# EAGLE library part MCU_ESP32-C3FH4 (library !GPLIB_ACTIVE)
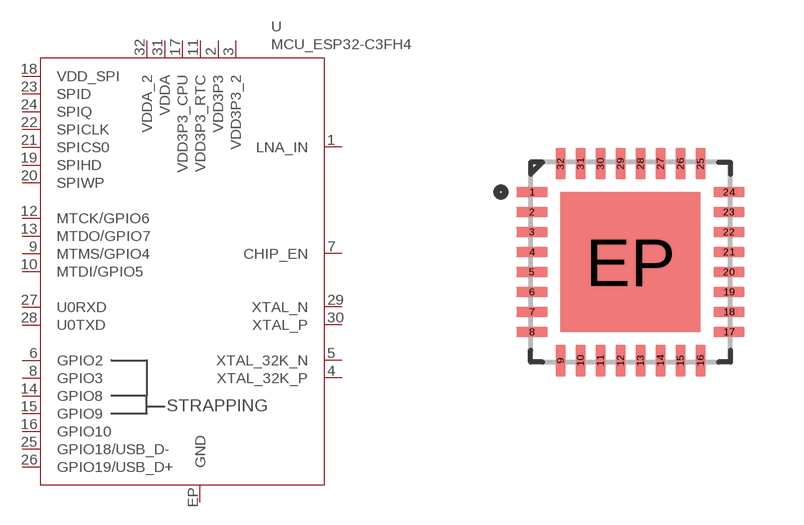
[diagram p38: symbol with the pads of QFN50P500X500X90-33N; footprint QFN50P500X500X90-33N]

Designator prefix U

## MCU_ESP32-C3FH4  [QFN50P500X500X90-33N]
1  LNA_IN
2  VDD3P3  pwr
3  VDD3P3_2  pwr
4  XTAL_32K_P
5  XTAL_32K_N
6  GPIO2
7  CHIP_EN
8  GPIO3
9  MTMS/GPIO4
10  MTDI/GPIO5
11  VDD3P3_RTC  pwr
12  MTCK/GPIO6
13  MTDO/GPIO7
14  GPIO8
15  GPIO9
16  GPIO10
17  VDD3P3_CPU  pwr
18  VDD_SPI
19  SPIHD
20  SPIWP
21  SPICS0
22  SPICLK
23  SPID
24  SPIQ
25  GPIO18/USB_D-
26  GPIO19/USB_D+
27  U0RXD
28  U0TXD
29  XTAL_N
30  XTAL_P
31  VDDA  pwr
32  VDDA_2  pwr
EP  GND  pwr

## Footprint QFN50P500X500X90-33N (pad centres in mm)
smd 0.79 x 0.26: 1 -2.465,1.75; 2 -2.465,1.25; 3 -2.465,0.75; 4 -2.465,0.25; 5 -2.465,-0.25; 6 -2.465,-0.75; 7 -2.465,-1.25; 8 -2.465,-1.75; 17 2.465,-1.75; 18 2.465,-1.25; 19 2.465,-0.75; 20 2.465,-0.25; 21 2.465,0.25; 22 2.465,0.75; 23 2.465,1.25; 24 2.465,1.75
smd 0.26 x 0.79: 9 -1.75,-2.465; 10 -1.25,-2.465; 11 -0.75,-2.465; 12 -0.25,-2.465; 13 0.25,-2.465; 14 0.75,-2.465; 15 1.25,-2.465; 16 1.75,-2.465; 25 1.75,2.465; 26 1.25,2.465; 27 0.75,2.465; 28 0.25,2.465; 29 -0.25,2.465; 30 -0.75,2.465; 31 -1.25,2.465; 32 -1.75,2.465
smd 3.5 x 3.5: EP 0,0